# EAGLE library part 615008145521 (library Eagle_WR-MJ (rev23b))
WR-MJ Modular Jack Horizontal Shielded w. EMI Panel Finger 8P8C CAT 5e Tab Down KIND PROPERTIES Quality Class:500 Mating cycles General Information Operating Temperature:-40 up to +85 °C Compliance:RoHS Electrical Properties IR1:1.5A Working Voltage: 125 V (AC) Withstanding Voltage:1000V (AC) Contact Resistance:20mΩ RISO:500 MΩ Material Properties Insulator MateriaL:PA66 Insulator Flammability Rating:UL94 V-0 Color:Black Contact Material:Copper Alloy Contact Plating:Selective Gold Contact Type:Stamped Shielding Material:Bronze Shielding Plating:Nickel Packaging Properties Packaging:Tray <https://www.we-online.com/catalog/media/o33135v209%20Family_WR-MJ_615008145521.jpg> Details see: www.we-online.com/catalog/MJ_HORIZONTAL_SHIELDED_W_EMI_PANEL_FINGER_8P8C_CAT_5E_TAB_DOWN/ <www.we-online.com/catalog/MJ_HORIZONTAL_SHIELDED_W_EMI_PANEL_FINGER_8P8C_CAT_5E_TAB_DOWN/?utm_source=eagle_model&utm_medium=description_link&utm_campaign=eisos_eagle> Updated by Ella Wu 2022-07-19 2022 (C) Würth Elektronik
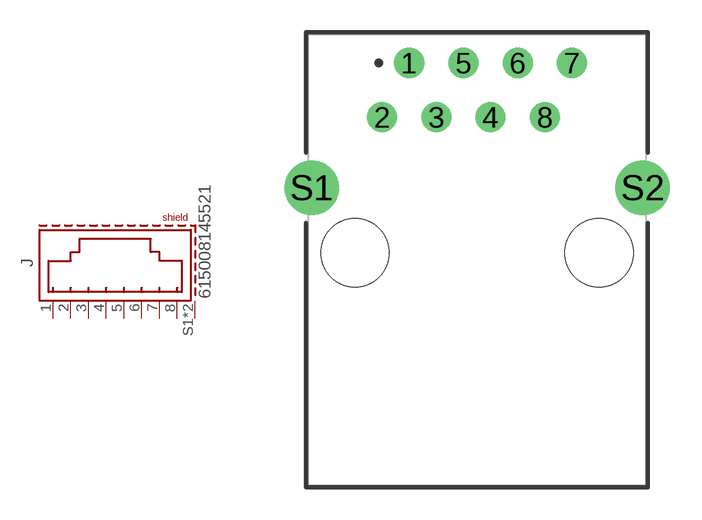
[diagram p64: symbol with the pads of 615008145521; footprint 615008145521]

Designator prefix J

## 615008145521 (DATASHEET-URL: https://www.we-online.com/redexpert/spec/615008145521?ae; MOUNT: THT; PART-NUMBER: 615008145521; TYPE: Horizontal; VALUE: 615008145521; XPXC: 8P8C)  [615008145521]
1  8  pas
2  7  pas
3  6  pas
4  5  pas
5  4  pas
6  3  pas
7  2  pas
8  1  pas
S1  SHIELD  pas
S2  SHIELD  pas

## Footprint 615008145521 (pad centres in mm)
WR-MJ Modular Jack Horizontal Shielded w. EMI Panel Finger 8P8C CAT 5e Tab Down ,8 Pins
drill 0.9: 1 -3.175,9.22; 2 -4.445,6.68; 3 -1.905,6.68; 4 0.635,6.68; 5 -0.635,9.22; 6 1.905,9.22; 7 4.445,9.22; 8 3.175,6.68
drill 1.7: S1 -7.75,3.38; S2 7.75,3.38
hole 3.2 at -5.715,0.33
hole 3.2 at 5.715,0.33